# Altium schematic symbol library G6K-2F-Y-TR.SchLib: 1 symbol
Pins are listed as number, name and electrical type; pins without a type are passive.

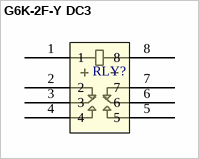
[diagram p0: symbol G6K-2F-Y DC3]

## G6K-2F-Y DC3
designator RLY?
No Description Available; Manufacturer_Part_Number: G6K-2F-Y-TR DC3; Built_By: EMA_Justin; Vendor: Omron; Copyright: Copyright (C) 2018 Accelerated Designs. All rights reserved; RefDes: RefDes; Type: DEV; Value: Value
footprint G6K-2F-Y DC3
pins: 1, 2, 3, 4, 5, 6, 7, 8